# EAGLE library part TPS53819A (library TPS53819A)
The TPS53819A device is a small-sized, single buck controller with adaptive on-time D-CAP2 mode control and PMBus. The device is suitable for low output voltage and high current, system power rail, or similar point-of-load (POL) power supply in digital consumer products. Small package with minimal pin-count saves space on the PCB, while the programmability and fault report via PMBus simplify the power supply design. The skip-mode at light-load condition combined with strong gate drivers and low-side FET on-resistance (RDS(on)) current sensing can support low-loss and high efficiency operation, over a broad load range. The conversion input voltage, which is the high-side FET drain voltage, ranges from 3 V to 28 V. The supply voltage (VDD) is from 4.5 V to 28 V. The output voltage ranges from 0.6 V to 5.5 V. The device is available in a 16-pin, QFN package and is specified from –40°C to +85°C.
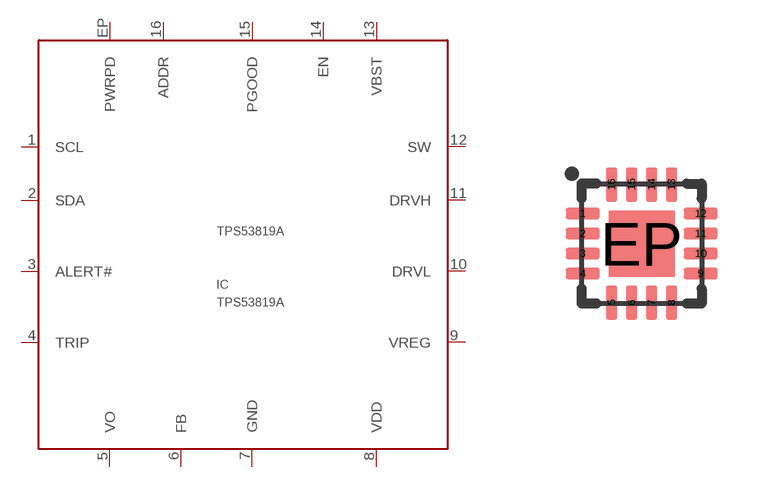
[diagram p0: symbol with the pads of QFN-16; footprint QFN-16]

Designator prefix IC

## TPS53819A  [QFN-16]
1  SCL
2  SDA
3  ALERT#  out
4  TRIP  out
5  VO  in
6  FB  in
7  GND  sup
8  VDD  pwr
9  VREG  sup
10  DRVL  out
11  DRVH  out
12  SW  out
13  VBST  pwr
14  EN  in
15  PGOOD  out
16  ADDR  in
EP  PWRPD  sup

## Footprint QFN-16 (pad centres in mm)
Untested!
smd 0.85 x 0.28: 1 -1.475,0.75; 2 -1.475,0.25; 3 -1.475,-0.25; 4 -1.475,-0.75; 9 1.475,-0.75; 10 1.475,-0.25; 11 1.475,0.25; 12 1.475,0.75
smd 0.28 x 0.85: 5 -0.75,-1.475; 6 -0.25,-1.475; 7 0.25,-1.475; 8 0.75,-1.475; 13 0.75,1.475; 14 0.25,1.475; 15 -0.25,1.475; 16 -0.75,1.475
smd 1.65 x 1.65: EP 0,0